# EAGLE library part PTPS55288RPMR (library TPS55288)
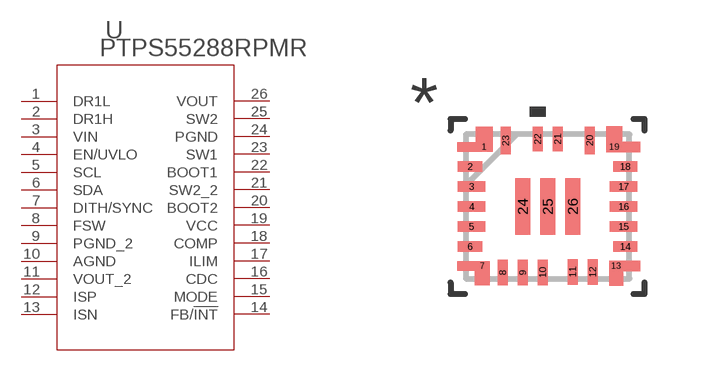
[diagram p1: symbol with the pads of VQFN-HR26_RPM_TEX; footprint VQFN-HR26_RPM_TEX]

Designator prefix U

## PTPS55288RPMR (COPYRIGHT: Copyright (C) 2022 Ultra Librarian. All rights reserved.; MANUFACTURER_PART_NUMBER: PTPS55288RPMR; MFR_NAME: Texas Instruments)  [VQFN-HR26_RPM_TEX]
1  DR1L  out
2  DR1H  out
3  VIN  pwr
4  EN/UVLO  in
5  SCL  in
6  SDA
7  DITH/SYNC  in
8  FSW  in
9  PGND_2  pwr
10  AGND  pwr
11  VOUT_2  pwr
12  ISP  in
13  ISN  in
14  FB/!INT
15  MODE  in
16  CDC  out
17  ILIM  out
18  COMP  in
19  VCC  out
20  BOOT2  out
21  SW2_2  in
22  BOOT1  in
23  SW1  in
24  PGND  pwr
25  SW2  in
26  VOUT  pwr

## Footprint VQFN-HR26_RPM_TEX (pad centres in mm)
smd 0.406 x 0.229: 1 -1.625,1.488; 19 1.625,1.488
smd 0.61 x 0.254: 2 -1.976,1; 6 -1.976,-1; 14 1.9,-1; 18 1.9,1
smd 0.686 x 0.254: 3 -1.938,0.5; 4 -1.938,0; 5 -1.938,-0.5; 15 1.862,-0.5; 16 1.862,0; 17 1.862,0.5
smd 0.356 x 0.229: 7 -1.675,-1.488; 13 1.675,-1.488
smd 0.254 x 0.635: 8 -1.163,-1.65; 9 -0.663,-1.65; 10 -0.163,-1.65; 11 0.587,-1.637; 12 1.087,-1.637
smd 0.254 x 0.686: 20 1.012,1.65; 23 -1.088,1.65
smd 0.254 x 0.61: 21 0.212,1.688; 22 -0.288,1.688
smd 0.381 x 1.422: 24 -0.663,0; 25 -0.038,0; 26 0.587,0